# Altium schematic symbol library Bourns SDR0302 Inductor.Schlib: 1 symbol
Pins are listed as number, name and electrical type; pins without a type are passive.

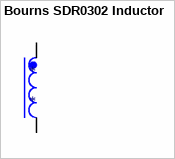
[diagram p0: symbol Bourns SDR0302 Inductor]

## Bourns SDR0302 Inductor
designator *
pins: 1, 2